# Altium schematic symbol library jumpers.SchLib: 3 symbols
Pins are listed as number, name and electrical type; pins without a type are passive.

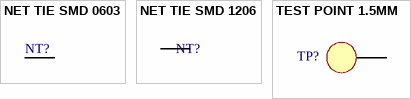
[diagram p0: symbols NET TIE SMD 0603 to TEST POINT 1.5MM]

## NET TIE SMD 0603
designator NT?, comment NT0603  (value not drawn)
footprint RES SMD 0603-N (Chip Resistor, Body 1.6x0.8mm, IPC Medium Density)
pins: 1, 2

## NET TIE SMD 1206
designator NT?, comment NT1206  (value not drawn)
footprint RES SMD 1206-N (Chip Resistor, Body 3.2x1.6mm, IPC Medium Density)
pins: 1, 2

## TEST POINT 1.5MM
designator TP?  (value not drawn)
footprint TP-1.5MM (TEST POINT 1.5MM)
pins: 1